# EAGLE library part QX5241A (library QX5241a - LED Driver)
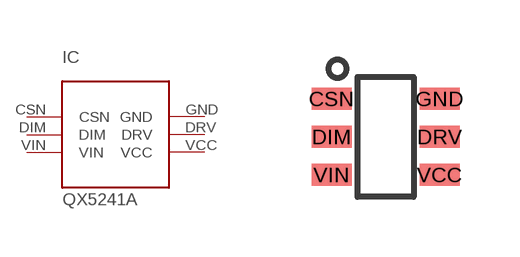
[diagram p0: symbol with the pads of SOT-23-6; footprint SOT-23-6]

Designator prefix IC

## QX5241A  [SOT-23-6]
CSN  CSN
DIM  DIM
DRV  DRV
GND  GND
VCC  VCC
VIN  VIN

## Footprint SOT-23-6 (pad centres in mm)
smd 1 x 0.55: CSN -1.35,0.95; DIM -1.35,0; DRV 1.35,0; GND 1.35,0.95; VCC 1.35,-0.95; VIN -1.35,-0.95